# EAGLE library part VL53L0*X? (library VL53L0X)
World’s smallest Time-of-Flight ranging and gesture detection sensor
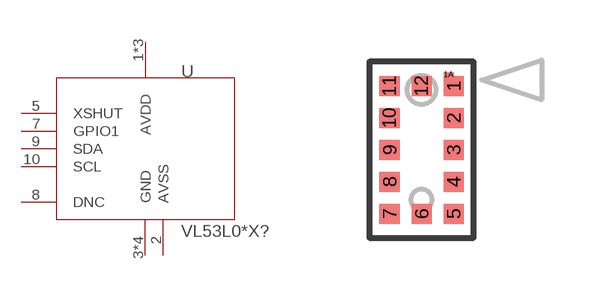
[diagram p0: symbol with the pads of OPTICAL_LGA12; footprint OPTICAL_LGA12]

Designator prefix -

## VL53L0CXV0DH/1 (MF: ST; MPN: VL53L0CXV0DH/1)  [OPTICAL_LGA12]
1  AVDD
1A  AVDD
2  AVSS
3  GND
4  GND
5  XSHUT
6  GND
7  GPIO1
8  DNC
9  SDA
10  SCL
11  AVDD
12  GND

## Footprint OPTICAL_LGA12 (pad centres in mm)
smd 0.5 x 0.5: 1 0.8,1.6; 2 0.8,0.8; 3 0.8,0; 4 0.8,-0.8; 5 0.8,-1.6; 6 0,-1.6; 7 -0.8,-1.6; 8 -0.8,-0.8; 9 -0.8,0; 10 -0.8,0.8; 11 -0.8,1.6; 12 0,1.6
smd 0.25 x 0.08: 1A 0.675,1.89